# Altium footprint library SIM.PcbLib: 40 footprints (part 2 of 3)
Each footprint in its own frame and in the unit in brackets; x right, y up, seen from the top. Pads: shape width x height; smd on the part's side, far side on the other; paste and mask are expansions set on the pad; w line width, h text height; cw(c..) or ccw(c..) is an arc to the next point about the centre after c.
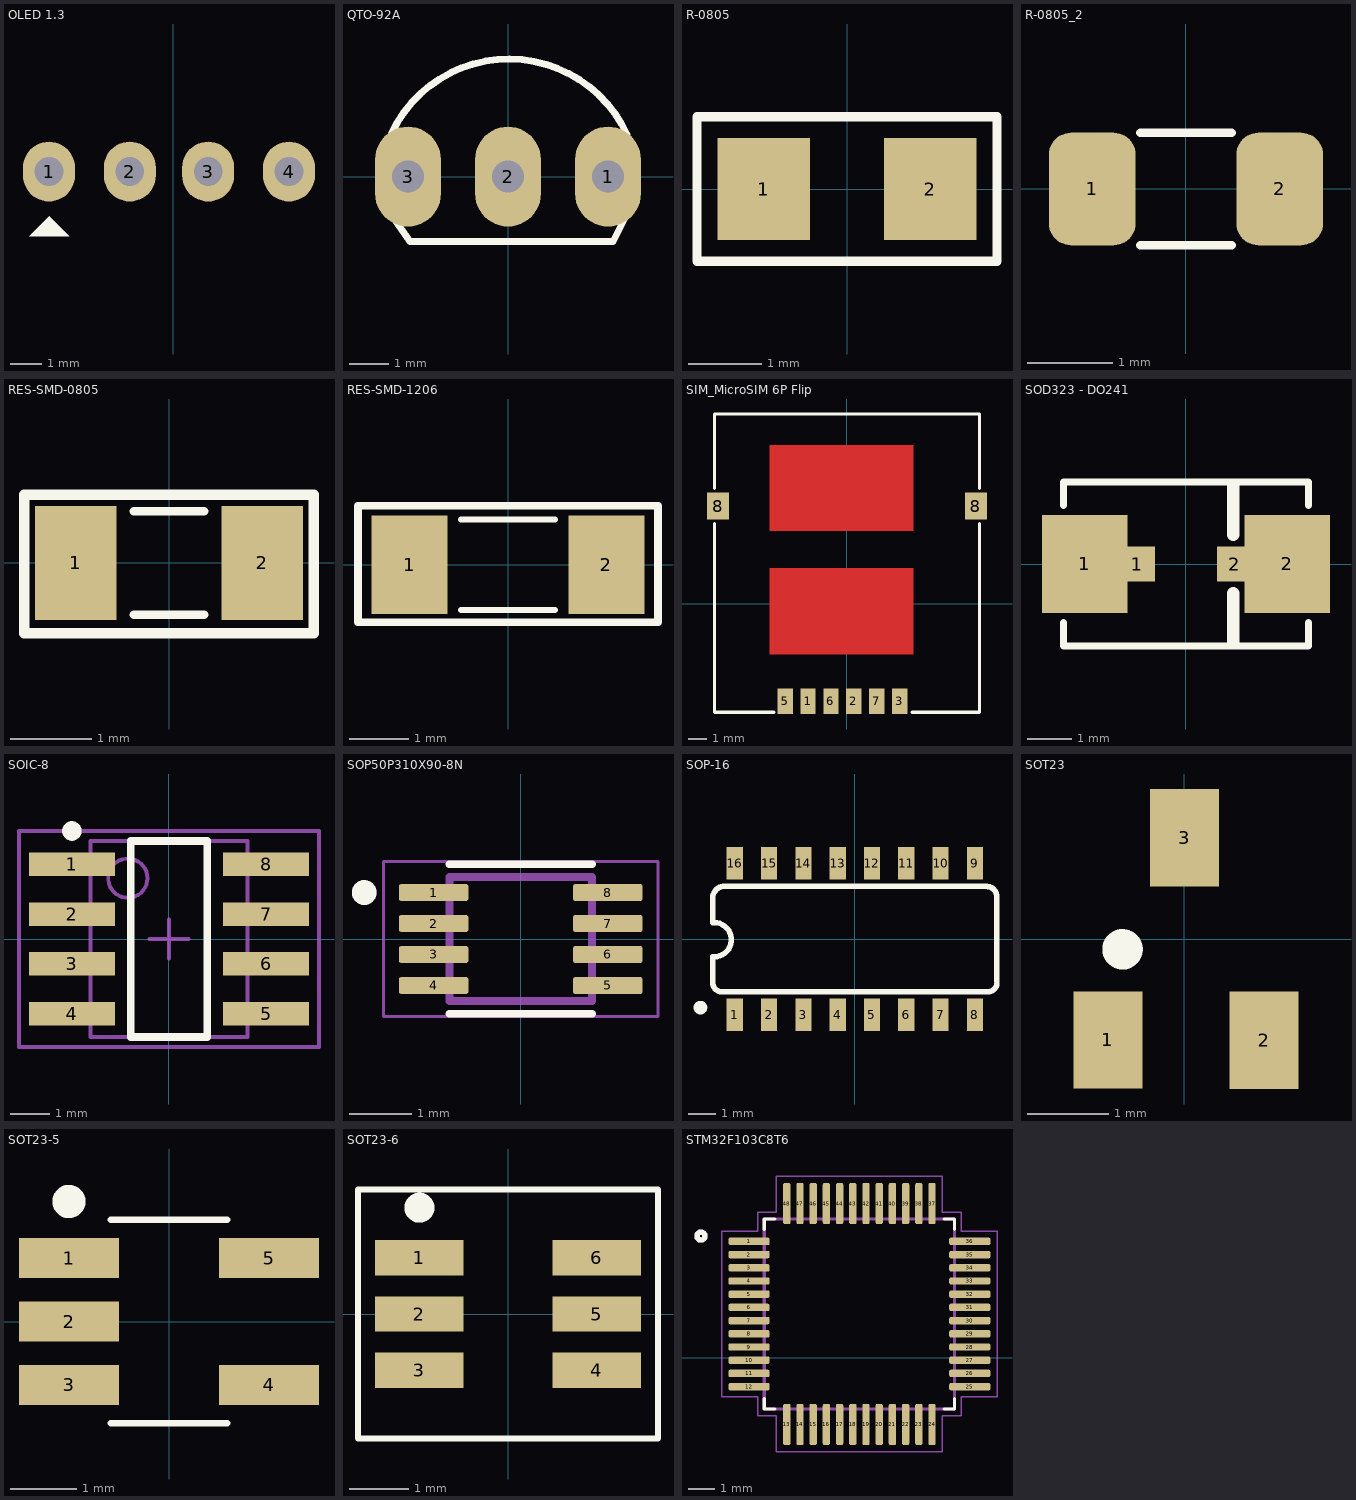
[diagram p1: the footprints below, top view; thin cyan lines are the x and y axes]

## OLED 1.3 [mil]
pads (4):
  oval 65x75 hole 36: 1(-155,590) 2(-54,590) 3(44,590) 4(145,590)
Top Overlay:
  region: -155,534 -180,509 -130,509
3D body "OLED I2C 1.3 Inch Display v16.step": height 553.15, standoff -117.64, extent -661.45,-686.77 657.45,640

## PCBComponent_1 - duplicate [mm]

## QTO-92A [mil] "TO-92"
height 200
pads (3):
  oval 66x100 hole 32: 1(100,0) 2(0,0) 3(-100,0)
Top Overlay:
  lines w7: -116.52,43.21 cw(c0.97,-12.43) 119.08,41.88 ; -115.34,-40.24 -98,-65 105,-65 118,-39
3D body "SW3dPS-TO92.STEP": height 245.04, standoff -199.79, extent -110,-60.56 107.73,100

## R-0805 [mil] "Compoment SMD 80x50mil"
height 50
pads (2):
  rect 50x55 smd: 1(-45,0) 2(45,0)
Top Overlay:
  lines w5: -81,-39 81,-39 81,39 -81,39 -81,-39
3D body "SW3dPS-0805 SMD Resistor.STEP": height 30.79, standoff 0, extent -39.36,-24.6 39.38,24.61

## R-0805_2 [mil]
pads (2):
  rrect50% 40x52 smd: 1(-43.31,0) 2(43.31,0)
Top Overlay:
  lines w4: -21,-26 21,-26 ; -21,26 21,26
3D body "User Library-RES0805-2.step": height 21.65, standoff 0, extent -39.37,-24.6 39.37,24.61

## RES-SMD-0805 [mil]
pads (2):
  rect 39.37x55 smd: 1(-45,0) 2(45,0)
Top Overlay:
  lines w4: -17,-25 17,-25 ; -17,25 17,25
  lines w5: -70,-34 70,-34 70,33 -70,33 -70,-34
3D body "SW3dPS-0805 SMD Resistor.STEP": height 31.39, standoff 0.6, extent -39.36,-24.6 39.38,24.61

## RES-SMD-1206 [mil]
pads (2):
  rect 50x65 smd: 1(-65,0) 2(65,0)
Top Overlay:
  lines w4: -31,-30 31,-30 ; -31,30 31,30
  lines w5: -99,-38 -99,39 99,39 99,-38 -99,-38
3D body "1206 SMD Resistor.step": height 40.05, standoff 0.6, extent -62.99,-31.49 63,31.51

## SIM_MicroSIM 6P Flip [mm]
height 12.75
pads (8):
  rect 0.85x1.4 smd: 1(-2.16,-5.415) 2(0.38,-5.415) 3(2.92,-5.415) 5(-3.43,-5.415) 6(-0.89,-5.415) 7(1.65,-5.415)
  rect 1.2x1.5 smd: 8(-7.15,5.415) 8(7.15,5.415)
Top Layer:
  pour cut-out: 3.683,-2.79 -4.293,-2.79 -4.293,1.96 3.683,1.96
  pour cut-out: 3.683,8.788 -4.293,8.788 -4.293,4.039 3.683,4.039
Top Overlay:
  lines w0.178: -7.35,6.4 -7.35,10.516 7.35,10.516 7.35,6.4 ; -7.35,4.445 -7.35,-6.02 -4.064,-6.02 ; 3.607,-6.02 7.35,-6.02 7.35,4.445
3D body "xknano-1308.stp": height 1.7, standoff -0.05, extent -7.605,-5.89 7.595,10.41

## SOD323 - DO241 [mm] "Chip Capacitor; Body 3.2 x 1.6 mm (LxW typ)"
height 1.5
pads (4):
  rect 1.93x2.21 smd: 1(-2.286,0) 2(2.286,0)
  rect 0.8x0.8 smd: 1(-1.1,0) 2(1.1,0)
Top Overlay:
  lines w0.152: -2.768,-1.321 -2.768,-1.854 2.769,-1.854 2.769,-1.321 ; -2.768,1.321 -2.768,1.854 2.769,1.854 2.769,1.321
  lines w0.279: 1.067,-1.778 1.067,-0.66 ; 1.067,0.66 1.067,1.778
3D body "User Library-DO-214AA SMB.step": height 2.27, standoff -0.03, extent -2.7,-1.8 2.7,1.8

## SOIC-8 [mm] "SOIC, 8-Leads, Body 5,0x4,0mm (max), Pitch 1,27mm, IPC Medium Density"
height 1.75
pads (8):
  rect 2.2x0.6 smd: 1(-2.475,1.905) 2(-2.475,0.635) 3(-2.475,-0.635) 4(-2.475,-1.905) 5(2.475,-1.905) 6(2.475,-0.635) 7(2.475,0.635) 8(2.475,1.905)
Top Overlay:
  circle w0.25: c-2.475,2.755 r0.125
  lines w0.2: -0.975,-2.5 0.975,-2.5 0.975,2.5 -0.975,2.5 -0.975,-2.5
Mechanical 13:
  circle w0.1: c-1.05,1.55 r0.5
  lines w0.1: -2,-2.5 2,-2.5 2,2.5 -2,2.5 -2,-2.5
Mechanical 15:
  lines w0.1: -0.5,0 0.5,0 ; 0,-0.5 0,0.5 ; -3.825,-2.75 3.825,-2.75 3.825,2.75 -3.825,2.75 -3.825,-2.75
3D body: height 0.25, standoff 0, extent -3.2,1.651 -2.515,2.159
3D body: height 0.9, standoff 0.65, extent -2.515,1.651 -2,2.159
3D body: height 0.9, standoff 0, extent -2.565,1.651 -2.413,2.159
3D body: height 0.9, standoff 0, extent -2.565,0.381 -2.413,0.889
3D body: height 0.9, standoff 0.65, extent -2.515,0.381 -2,0.889
3D body: height 0.25, standoff 0, extent -3.2,0.381 -2.515,0.889
3D body: height 0.25, standoff 0, extent -3.2,-2.159 -2.515,-1.651
3D body: height 0.9, standoff 0.65, extent -2.515,-2.159 -2,-1.651
3D body: height 0.9, standoff 0, extent -2.565,-2.159 -2.413,-1.651
3D body: height 0.9, standoff 0, extent -2.565,-0.889 -2.413,-0.381
3D body: height 0.9, standoff 0.65, extent -2.515,-0.889 -2,-0.381
3D body: height 0.25, standoff 0, extent -3.2,-0.889 -2.515,-0.381
3D body: height 0.25, standoff 0, extent 2.515,0.381 3.2,0.889
3D body: height 0.9, standoff 0.65, extent 2,0.381 2.515,0.889
3D body: height 0.9, standoff 0, extent 2.413,0.381 2.565,0.889
3D body: height 0.9, standoff 0, extent 2.413,1.651 2.565,2.159
3D body: height 0.9, standoff 0.65, extent 2,1.651 2.515,2.159
3D body: height 0.25, standoff 0, extent 2.515,1.651 3.2,2.159
3D body: height 0.25, standoff 0, extent 2.515,-0.889 3.2,-0.381
3D body: height 0.9, standoff 0.65, extent 2,-0.889 2.515,-0.381
3D body: height 0.9, standoff 0, extent 2.413,-0.889 2.565,-0.381
3D body: height 0.9, standoff 0, extent 2.413,-2.159 2.565,-1.651
3D body: height 0.9, standoff 0.65, extent 2,-2.159 2.515,-1.651
3D body: height 0.25, standoff 0, extent 2.515,-2.159 3.2,-1.651
3D body: height 1.75, standoff 0.25, extent -2,-2.5 2,2.5

## SOP50P310X90-8N [mm]
pads (8):
  rrect25% 1.12x0.27 smd: 1(-1.405,0.75) 2(-1.405,0.25) 3(-1.405,-0.25) 4(-1.405,-0.75) 5(1.405,-0.75) 6(1.405,-0.25) 7(1.405,0.25) 8(1.405,0.75)
Top Overlay:
  circle w0.2: c-2.525,0.75 r0.1
  lines w0.127: -1.15,-1.205 1.15,-1.205 ; -1.15,1.205 1.15,1.205
Mechanical 13:
  circle w0.2: c-2.525,0.75 r0.1
  lines w0.127: -1.15,-1 -1.15,1 1.15,1 1.15,-1 -1.15,-1
Mechanical 15:
  lines w0.05: -2.215,-1.25 -2.215,1.25 2.215,1.25 2.215,-1.25 -2.215,-1.25

## SOP-16 [mm]
pads (16):
  rect 0.6x1.2 smd: 1(-4.445,-2.8) 2(-3.175,-2.8) 3(-1.905,-2.8) 4(-0.635,-2.8) 5(0.635,-2.8) 6(1.905,-2.8) 7(3.175,-2.8) 8(4.445,-2.8) 9(4.445,2.8) 10(3.175,2.8) 11(1.905,2.8) 12(0.635,2.8) 13(-0.635,2.8) 14(-1.905,2.8) 15(-3.175,2.8) 16(-4.445,2.8)
Top Overlay:
  circle w0.254: c-5.715,-2.54 r0.127
  lines w0.203: -5.257,-1.668 ccw(c-4.927,-1.615) -4.874,-1.946 ; -5.258,-1.665 -5.258,-0.66 ; -5.258,0.61 -5.258,1.453 ; -5.257,1.463 cw(c-4.827,1.515) -4.88,1.946 ; -5.207,-0.66 ccw(c-5.207,-0.025) -5.207,0.61 ; -4.877,-1.946 4.977,-1.946 ; -4.877,1.946 4.877,1.946 cw(c4.877,1.565) 5.258,1.565 5.258,-1.565 ; 4.979,-1.946 ccw(c4.927,-1.615) 5.257,-1.563
Mechanical 13:
  region: 4.699,2.286 4.191,2.286 4.191,3.302 4.699,3.302
  region: 3.429,2.286 2.921,2.286 2.921,3.302 3.429,3.302
  region: 2.159,2.286 1.651,2.286 1.651,3.302 2.159,3.302
  region: 0.889,2.286 0.381,2.286 0.381,3.302 0.889,3.302
  region: -0.381,2.286 -0.889,2.286 -0.889,3.302 -0.381,3.302
  region: -1.651,2.286 -2.159,2.286 -2.159,3.302 -1.651,3.302
  region: -2.921,2.286 -3.429,2.286 -3.429,3.302 -2.921,3.302
  region: -4.191,2.286 -4.699,2.286 -4.699,3.365 -4.191,3.365
  region: 4.699,-3.302 4.191,-3.302 4.191,-2.273 4.699,-2.273
  region: 3.429,-3.302 2.921,-3.302 2.921,-2.273 3.429,-2.273
  region: 2.159,-3.302 1.651,-3.302 1.651,-2.273 2.159,-2.273
  region: 0.889,-3.302 0.381,-3.302 0.381,-2.273 0.889,-2.273
  region: -0.381,-3.302 -0.889,-3.302 -0.889,-2.273 -0.381,-2.273
  region: -1.651,-3.302 -2.159,-3.302 -2.159,-2.273 -1.651,-2.273
  region: -2.921,-3.302 -3.429,-3.302 -3.429,-2.273 -2.921,-2.273
  region: -4.191,-3.302 -4.699,-3.302 -4.699,-2.273 -4.191,-2.273
3D body: height 0.2, standoff 0, extent 4.204,2.779 4.696,3.475
3D body: height 0.9, standoff 0, extent 4.204,2.454 4.696,2.779
3D body: height 0.9, standoff 0.7, extent 4.204,1.415 4.696,2.454
3D body: height 0.9, standoff 0.7, extent 2.934,1.415 3.426,2.454
3D body: height 0.9, standoff 0, extent 2.934,2.454 3.426,2.779
3D body: height 0.2, standoff 0, extent 2.934,2.779 3.426,3.475
3D body: height 0.2, standoff 0, extent 0.394,2.779 0.886,3.475
3D body: height 0.9, standoff 0, extent 0.394,2.454 0.886,2.779
3D body: height 0.9, standoff 0.7, extent 0.394,1.415 0.886,2.454
3D body: height 0.9, standoff 0.7, extent 1.664,1.415 2.156,2.454
3D body: height 0.9, standoff 0, extent 1.664,2.454 2.156,2.779
3D body: height 0.2, standoff 0, extent 1.664,2.779 2.156,3.475
3D body: height 0.2, standoff 0, extent -2.146,2.779 -1.654,3.475
3D body: height 0.9, standoff 0, extent -2.146,2.454 -1.654,2.779
3D body: height 0.9, standoff 0.7, extent -2.146,1.415 -1.654,2.454
3D body: height 0.9, standoff 0.7, extent -0.876,1.415 -0.384,2.454
3D body: height 0.9, standoff 0, extent -0.876,2.454 -0.384,2.779
3D body: height 0.2, standoff 0, extent -0.876,2.779 -0.384,3.475
3D body: height 0.2, standoff 0, extent -4.686,2.779 -4.194,3.475
3D body: height 0.9, standoff 0, extent -4.686,2.454 -4.194,2.779
3D body: height 0.9, standoff 0.7, extent -4.686,1.415 -4.194,2.454
3D body: height 0.9, standoff 0.7, extent -3.416,1.415 -2.924,2.454
3D body: height 0.9, standoff 0, extent -3.416,2.454 -2.924,2.779
3D body: height 0.2, standoff 0, extent -3.416,2.779 -2.924,3.475
3D body: height 0.2, standoff 0, extent 2.923,-3.475 3.416,-2.779
3D body: height 0.9, standoff 0, extent 2.923,-2.779 3.416,-2.454
3D body: height 0.9, standoff 0.7, extent 2.923,-2.454 3.416,-1.415
3D body: height 0.9, standoff 0.7, extent 4.193,-2.454 4.686,-1.415
3D body: height 0.9, standoff 0, extent 4.193,-2.779 4.686,-2.454
3D body: height 0.2, standoff 0, extent 4.193,-3.475 4.686,-2.779
3D body: height 0.2, standoff 0, extent 0.383,-3.475 0.876,-2.779
3D body: height 0.9, standoff 0, extent 0.383,-2.779 0.876,-2.454
3D body: height 0.9, standoff 0.7, extent 0.383,-2.454 0.876,-1.415
3D body: height 0.9, standoff 0.7, extent 1.653,-2.454 2.146,-1.415
3D body: height 0.9, standoff 0, extent 1.653,-2.779 2.146,-2.454
3D body: height 0.2, standoff 0, extent 1.653,-3.475 2.146,-2.779
3D body: height 0.2, standoff 0, extent -2.157,-3.475 -1.664,-2.779
3D body: height 0.9, standoff 0, extent -2.157,-2.779 -1.664,-2.454
3D body: height 0.9, standoff 0.7, extent -2.157,-2.454 -1.664,-1.415
3D body: height 0.9, standoff 0.7, extent -0.887,-2.454 -0.394,-1.415
3D body: height 0.9, standoff 0, extent -0.887,-2.779 -0.394,-2.454
3D body: height 0.2, standoff 0, extent -0.887,-3.475 -0.394,-2.779
3D body: height 0.2, standoff 0, extent -3.427,-3.475 -2.934,-2.779
3D body: height 0.9, standoff 0, extent -3.427,-2.779 -2.934,-2.454
3D body: height 0.9, standoff 0.7, extent -3.427,-2.454 -2.934,-1.415
3D body: height 0.9, standoff 0.7, extent -4.697,-2.454 -4.204,-1.415
3D body: height 0.9, standoff 0, extent -4.697,-2.779 -4.204,-2.454
3D body: height 0.2, standoff 0, extent -4.697,-3.475 -4.204,-2.779
3D body: height 1.75, standoff 0, extent -4.95,-1.95 4.95,1.95

## SOT23 [mm] "SOT 23 _ 1-3-2"
height 1.27
pads (3):
  rect 0.85x1.2 smd: 1(-0.94,-1.245) 2(0.985,-1.25) 3(0.005,1.25)
Top Overlay:
  circle w0.25: c-0.76,-0.127 r0.125
3D body "SW3DPS-SOT-23-DEFAULT.STEP": height 1.06, standoff -0.04, extent -1.475,-1.326 1.525,1.174

## SOT23-5 [mm] "SOT23, 5-Leads, Body 3.0x3.0mm (max), Pitch 0.95mm, IPC Medium Density"
height 1.45
pads (5):
  rect 1.5x0.6 smd: 1(-1.5,0.95) 2(-1.5,0) 3(-1.5,-0.95) 4(1.5,-0.95) 5(1.5,0.95)
Top Overlay:
  circle w0.25: c-1.5,1.8 r0.125
  lines w0.1: -0.875,-1.525 0.875,-1.525 ; -0.875,1.525 0.875,1.525
3D body: height 0.15, standoff 0, extent 1.219,-1.168 1.753,-0.711
3D body: height 0.9, standoff 0, extent 1.092,-1.168 1.219,-0.711
3D body: height 0.9, standoff 0.75, extent 0.813,-1.168 1.092,-0.711
3D body: height 0.15, standoff 0, extent 1.219,0.732 1.753,1.189
3D body: height 0.9, standoff 0, extent 1.092,0.732 1.219,1.189
3D body: height 0.9, standoff 0.75, extent 0.813,0.732 1.092,1.189
3D body: height 0.15, standoff 0, extent -1.753,-1.189 -1.219,-0.732
3D body: height 0.9, standoff 0, extent -1.219,-1.189 -1.092,-0.732
3D body: height 0.9, standoff 0.75, extent -1.092,-1.189 -0.813,-0.732
3D body: height 0.15, standoff 0, extent -1.753,-0.239 -1.219,0.218
3D body: height 0.9, standoff 0, extent -1.219,-0.239 -1.092,0.218
3D body: height 0.9, standoff 0.75, extent -1.092,-0.239 -0.813,0.218
3D body: height 1.45, standoff 0, extent -0.875,-1.525 0.875,1.525
3D body: height 0.9, standoff 0.75, extent -1.092,0.711 -0.813,1.168
3D body: height 0.9, standoff 0, extent -1.219,0.711 -1.092,1.168
3D body: height 0.15, standoff 0, extent -1.753,0.711 -1.219,1.168

## SOT23-6 [mm] "SOT23, 5-Leads, Body 3.0x3.0mm (max), Pitch 0.95mm, IPC Medium Density"
height 1.45
pads (6):
  rect 1.5x0.6 smd: 1(-1.5,0.95) 2(-1.5,0) 3(-1.5,-0.95) 4(1.5,-0.95) 5(1.5,0) 6(1.5,0.95)
Top Overlay:
  circle w0.254: c-1.5,1.8 r0.127
  circle w0.25: c-1.5,1.8 r0.125
  lines w0.102: -2.159,2.107 1.905,2.107 ; -2.54,-2.107 -2.54,2.107 2.54,2.107 2.54,-2.107 -2.54,-2.107
3D body: height 0.15, standoff 0, extent 1.219,-1.168 1.753,-0.711
3D body: height 0.9, standoff 0, extent 1.092,-1.168 1.219,-0.711
3D body: height 0.9, standoff 0.75, extent 0.813,-1.168 1.092,-0.711
3D body: height 0.15, standoff 0, extent 1.219,0.732 1.753,1.189
3D body: height 0.9, standoff 0, extent 1.092,0.732 1.219,1.189
3D body: height 0.9, standoff 0.75, extent 0.813,0.732 1.092,1.189
3D body: height 0.15, standoff 0, extent -1.753,-1.189 -1.219,-0.732
3D body: height 0.9, standoff 0, extent -1.219,-1.189 -1.092,-0.732
3D body: height 0.9, standoff 0.75, extent -1.092,-1.189 -0.813,-0.732
3D body: height 0.15, standoff 0, extent -1.753,-0.239 -1.219,0.218
3D body: height 0.9, standoff 0, extent -1.219,-0.239 -1.092,0.218
3D body: height 0.9, standoff 0.75, extent -1.092,-0.239 -0.813,0.218
3D body: height 1.45, standoff 0, extent -0.875,-1.525 0.875,1.525
3D body: height 0.9, standoff 0.75, extent -1.092,0.711 -0.813,1.168
3D body: height 0.9, standoff 0, extent -1.219,0.711 -1.092,1.168
3D body: height 0.15, standoff 0, extent -1.753,0.711 -1.219,1.168
3D body: height 0.9, standoff 0.75, extent 0.813,-0.218 1.092,0.239
3D body: height 0.9, standoff 0, extent 1.092,-0.218 1.219,0.239
3D body: height 0.15, standoff 0, extent 1.219,-0.218 1.753,0.239

## STM32F103C8T6 [mm]
pads (48):
  rrect50% 1.56x0.28 smd: 1(15.124,4.401) 2(15.124,3.901) 3(15.124,3.401) 4(15.124,2.901) 5(15.124,2.401) 6(15.124,1.901) 7(15.124,1.401) 8(15.124,0.901) 9(15.124,0.401) 10(15.124,-0.099) 11(15.124,-0.599) 12(15.124,-1.099) 25(23.484,-1.099) 26(23.484,-0.599) 27(23.484,-0.099) 28(23.484,0.401) 29(23.484,0.901) 30(23.484,1.401) 31(23.484,1.901) 32(23.484,2.401) 33(23.484,2.901) 34(23.484,3.401) 35(23.484,3.901) 36(23.484,4.401)
  rrect50% 0.28x1.56 smd: 13(16.554,-2.529) 14(17.054,-2.529) 15(17.554,-2.529) 16(18.054,-2.529) 17(18.554,-2.529) 18(19.054,-2.529) 19(19.554,-2.529) 20(20.054,-2.529) 21(20.554,-2.529) 22(21.054,-2.529) 23(21.554,-2.529) 24(22.054,-2.529) 37(22.054,5.831) 38(21.554,5.831) 39(21.054,5.831) 40(20.554,5.831) 41(20.054,5.831) 42(19.554,5.831) 43(19.054,5.831) 44(18.554,5.831) 45(18.054,5.831) 46(17.554,5.831) 47(17.054,5.831) 48(16.554,5.831)
Top Overlay:
  circle w0.2: c13.304,4.601 r0.15
  lines w0.127: 15.704,-1.559 15.704,-1.949 16.094,-1.949 ; 15.704,4.861 15.704,5.251 16.094,5.251 ; 22.514,-1.949 22.904,-1.949 22.904,-1.559 ; 22.514,5.251 22.904,5.251 22.904,4.861
Mechanical 13:
  circle w0.2: c13.304,4.601 r0.15
  lines w0.127: 15.704,-1.949 15.704,5.251 22.904,5.251 22.904,-1.949 15.704,-1.949
Mechanical 15:
  lines w0.05: 14.094,-1.489 14.094,4.791 15.454,4.791 15.454,5.501 16.164,5.501 16.164,6.861 22.444,6.861 22.444,5.501 23.154,5.501 23.154,4.791 24.514,4.791 24.514,-1.489 23.154,-1.489 23.154,-2.199 22.444,-2.199 22.444,-3.559 16.164,-3.559 16.164,-2.199 15.454,-2.199 15.454,-1.489 14.094,-1.489